# EAGLE library part VACUUM_SWITCH (library JoesCustom)
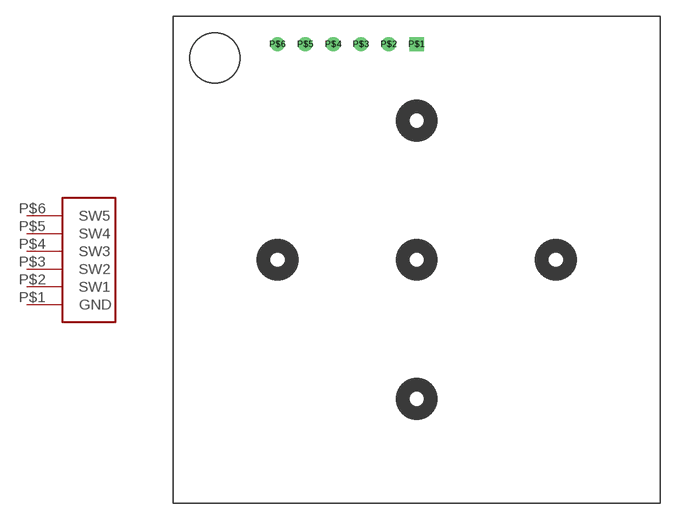
[diagram p4: symbol with the pads of VACUUM_SWITCH; footprint VACUUM_SWITCH]

Designator prefix -

## VACUUM_SWITCH  [VACUUM_SWITCH]
P$1  GND
P$2  SW1
P$3  SW2
P$4  SW3
P$5  SW4
P$6  SW5

## Footprint VACUUM_SWITCH (pad centres in mm)
drill 0.8 square: P$1 0,19.685
drill 0.8 round: P$2 -2.54,19.685; P$3 -5.08,19.685; P$4 -7.62,19.685; P$5 -10.16,19.685; P$6 -12.7,19.685